# Altium footprint library gyh的PCB库 .PcbLib: 41 footprints (part 3 of 3)
Each footprint in its own frame and in the unit in brackets; x right, y up, seen from the top. Pads: shape width x height; smd on the part's side, far side on the other; paste and mask are expansions set on the pad; w line width, h text height; cw(c..) or ccw(c..) is an arc to the next point about the centre after c.
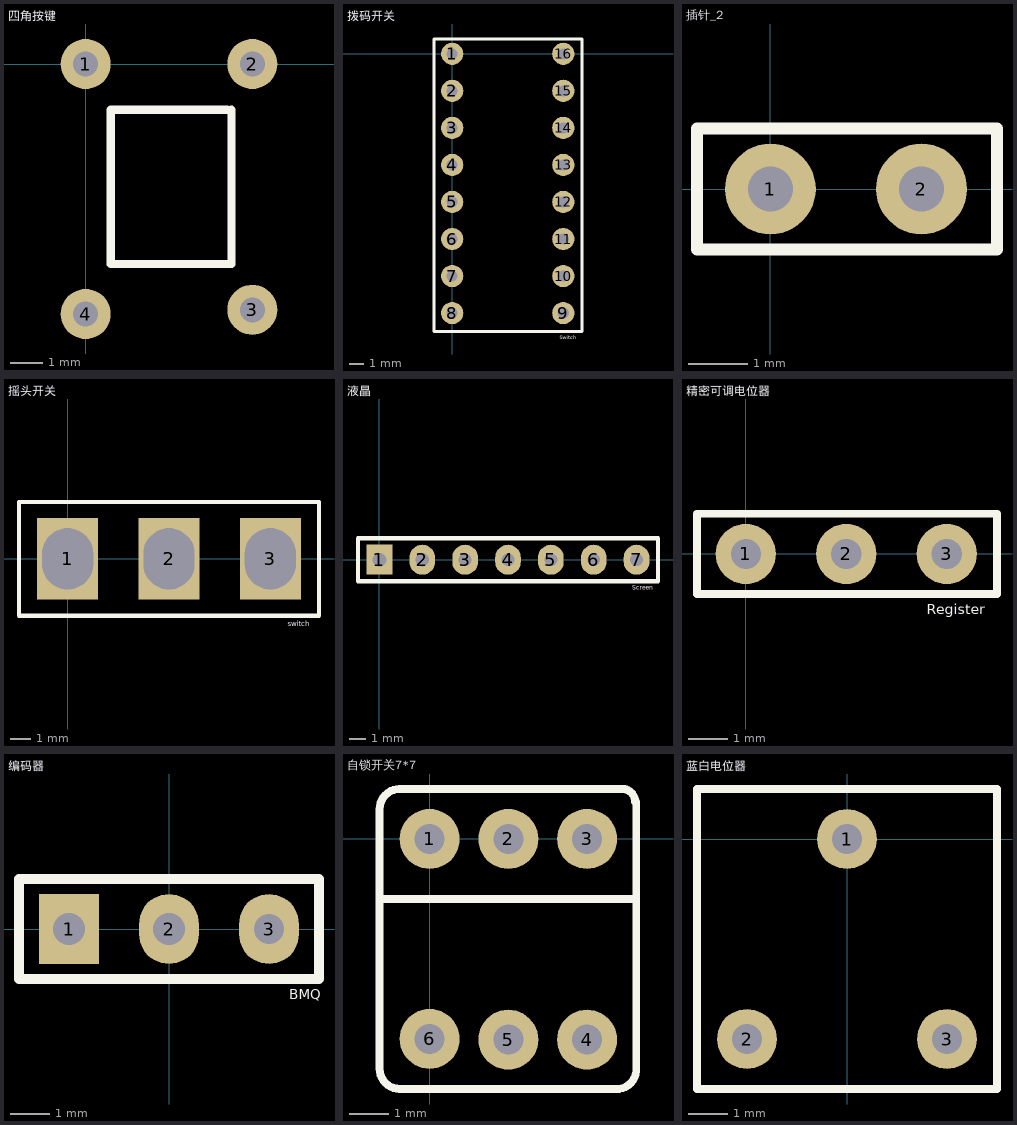
[diagram p2: the footprints below, top view; thin cyan lines are the x and y axes]

## 四角按键 [mil]
pads (4):
  round 60 hole 30: 1(0,0) 2(200,0) 3(200,-295) 4(0,-300)
Top Overlay:
  lines w10: 170,-55 30,-55 30,-240 175,-240 175,-55

## 拨码开关 [mil]
pads (16):
  round 60 hole 30: 1(0,0) 2(0,-100) 3(0,-200) 4(0,-300) 5(0,-400) 6(0,-500) 7(0,-600) 8(0,-700) 9(300,-700) 10(300,-600) 11(300,-500) 12(300,-400) 13(300,-300) 14(300,-200) 15(300,-100) 16(300,0)
Top Overlay:
  lines w7.87: -48.62,-750 -48.62,40 350,40 350,-750 -48.62,-750
  text "Switch" at 290,-770 h10

## 插针_2 [mil]
pads (2):
  round 60 hole 30: 1(0,0) 2(100,0)
Top Overlay:
  lines w7.87: -48.62,-40 150,-40 150,40 -48.62,40 -48.62,-40

## 摇头开关 [mm]
pads (3):
  rect 3x4 hole 2.5 slot 3 at 90 deg: 1(0,0) 2(4.978,0) 3(9.957,0)
Top Overlay:
  lines w0.2: -2.388,-2.794 -2.388,2.794 12.344,2.794 12.344,-2.794 -2.388,-2.794
  text "switch" at 10.82,-3.302 h0.25

## 液晶 [mil]
pads (7):
  rect 60x70 hole 32: 1(0,0)
  oval 60x70 hole 32: 2(100,0)
  oval 60x70 hole 30: 3(200,0) 4(300,0) 5(400,0) 6(500,0) 7(600,0)
Top Overlay:
  lines w10: -50,-50 650,-50 650,50 -50,50 -50,-50
  text "Screen" at 590,-70 h10

## 精密可调电位器 [mil]
pads (3):
  round 60 hole 30: 1(0,0) 2(100,0) 3(200,0)
Top Overlay:
  lines w7.87: -48.62,-40 -48.62,40 250,40 250,-40 -48.62,-40
  text "Register" at 180,-60 h10

## 编码器 [mil]
pads (3):
  rect 60x70 hole 32: 1(-100,0)
  oval 60x70 hole 32: 2(0,0)
  oval 60x70 hole 30: 3(100,0)
Top Overlay:
  lines w10: -150,-50 -150,50 150,50 150,-50 -150,-50
  text "BMQ" at 120,-70 h10

## 自锁开关7*7 [mil]
pads (6):
  round 60 hole 30: 1(0,0) 2(78.74,0) 3(157.48,0) 4(157.48,-200.79) 5(78.74,-200.79) 6(0,-200)
Top Overlay:
  lines w7.87: -50,-60 206.69,-60 ; 205.64,37.22 ccw(c192.86,37.22) 192.86,50 -30,50 ccw(c-30,30) -50,30 -50,-230 ccw(c-30,-230) -30,-250 189.35,-250 ccw(c187.19,-230.5) 206.69,-228.35 206.69,37.22

## 蓝白电位器 [mil]
pads (3):
  round 60 hole 30: 1(0,0) 2(-100,-200) 3(100,-200)
Top Overlay:
  lines w7.87: -150,-250 -150,50 150,50 150,-250 -150,-250